# Altium footprint library QFN.PcbLib: 1 footprints
Each footprint in its own frame and in the unit in brackets; x right, y up, seen from the top. Pads: shape width x height; smd on the part's side, far side on the other; paste and mask are expansions set on the pad; w line width, h text height; cw(c..) or ccw(c..) is an arc to the next point about the centre after c.
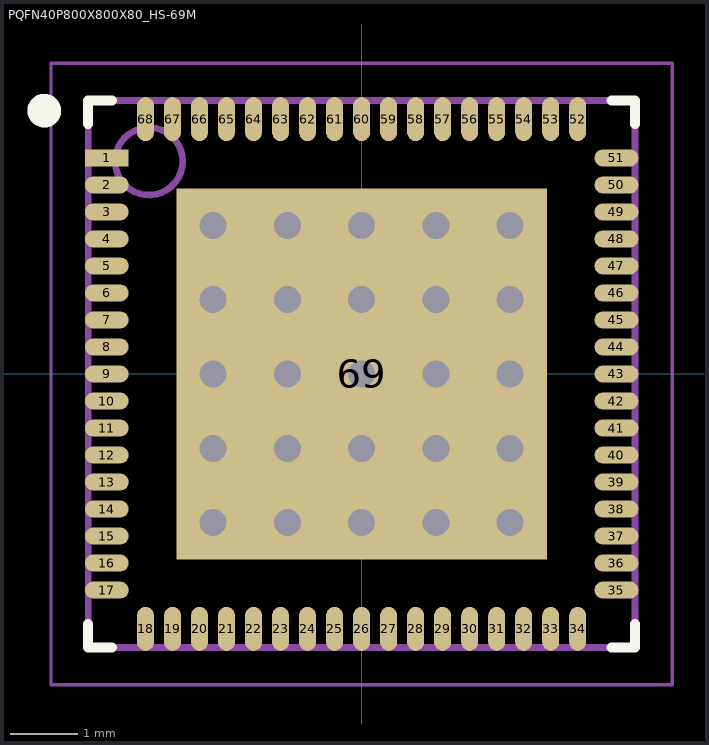
[diagram p0: the footprint, top view; thin cyan lines are the x and y axes]

## PQFN40P800X800X80_HS-69M [mm] "PQFN, 68-Leads, Body 8.00x8.00mm, Pitch 0.40mm, Thermal Pad 5.49x5.49mm, IPC Low Density"
height 0.8
pads (69):
  rect 0.65x0.25 smd: 1(-3.775,3.2)
  oval 0.65x0.25 smd: 2(-3.775,2.8) 3(-3.775,2.4) 4(-3.775,2) 5(-3.775,1.6) 6(-3.775,1.2) 7(-3.775,0.8) 8(-3.775,0.4) 9(-3.775,0) 10(-3.775,-0.4) 11(-3.775,-0.8) 12(-3.775,-1.2) 13(-3.775,-1.6) 14(-3.775,-2) 15(-3.775,-2.4) 16(-3.775,-2.8) 17(-3.775,-3.2) 35(3.775,-3.2) 36(3.775,-2.8) 37(3.775,-2.4) 38(3.775,-2) 39(3.775,-1.6) 40(3.775,-1.2) 41(3.775,-0.8) 42(3.775,-0.4) 43(3.775,0) 44(3.775,0.4) 45(3.775,0.8) 46(3.775,1.2) 47(3.775,1.6) 48(3.775,2) 49(3.775,2.4) 50(3.775,2.8) 51(3.775,3.2)
  oval 0.25x0.65 smd: 18(-3.2,-3.775) 19(-2.8,-3.775) 20(-2.4,-3.775) 21(-2,-3.775) 22(-1.6,-3.775) 23(-1.2,-3.775) 24(-0.8,-3.775) 25(-0.4,-3.775) 26(0,-3.775) 27(0.4,-3.775) 28(0.8,-3.775) 29(1.2,-3.775) 30(1.6,-3.775) 31(2,-3.775) 32(2.4,-3.775) 33(2.8,-3.775) 34(3.2,-3.775) 52(3.2,3.775) 53(2.8,3.775) 54(2.4,3.775) 55(2,3.775) 56(1.6,3.775) 57(1.2,3.775) 58(0.8,3.775) 59(0.4,3.775) 60(0,3.775) 61(-0.4,3.775) 62(-0.8,3.775) 63(-1.2,3.775) 64(-1.6,3.775) 65(-2,3.775) 66(-2.4,3.775) 67(-2.8,3.775) 68(-3.2,3.775)
  rect 5.49x5.49 smd: 69(0,0)
via 2.2,-2.2 diameter 0.8 hole 0.4
via 1.1,-2.2 diameter 0.8 hole 0.4
via 0,-2.2 diameter 0.8 hole 0.4
via -1.1,-2.2 diameter 0.8 hole 0.4
via -2.2,-2.2 diameter 0.8 hole 0.4
via 2.2,-1.1 diameter 0.8 hole 0.4
via 1.1,-1.1 diameter 0.8 hole 0.4
via 0,-1.1 diameter 0.8 hole 0.4
via -1.1,-1.1 diameter 0.8 hole 0.4
via -2.2,-1.1 diameter 0.8 hole 0.4
via 2.2,0 diameter 0.8 hole 0.4
via 1.1,0 diameter 0.8 hole 0.4
via 0,0 diameter 0.8 hole 0.4
via -1.1,0 diameter 0.8 hole 0.4
via -2.2,0 diameter 0.8 hole 0.4
via 2.2,1.1 diameter 0.8 hole 0.4
via 1.1,1.1 diameter 0.8 hole 0.4
via 0,1.1 diameter 0.8 hole 0.4
via -1.1,1.1 diameter 0.8 hole 0.4
via -2.2,1.1 diameter 0.8 hole 0.4
via 2.2,2.2 diameter 0.8 hole 0.4
via 1.1,2.2 diameter 0.8 hole 0.4
via 0,2.2 diameter 0.8 hole 0.4
via -1.1,2.2 diameter 0.8 hole 0.4
via -2.2,2.2 diameter 0.8 hole 0.4
Top Overlay:
  circle w0.25: c-4.7,3.9 r0.125
  lines w0.15: -4.05,-3.7 -4.05,-4.05 -3.7,-4.05 ; -4.05,3.7 -4.05,4.05 -3.7,4.05 ; 3.7,-4.05 4.05,-4.05 4.05,-3.7 ; 3.7,4.05 4.05,4.05 4.05,3.7
Mechanical 13:
  circle w0.1: c-3.15,3.15 r0.5
  lines w0.1: -4.05,-4.05 4.05,-4.05 4.05,4.05 -4.05,4.05 -4.05,-4.05
Mechanical 15:
  lines w0.05: -4.6,-4.6 4.6,-4.6 4.6,4.6 -4.6,4.6 -4.6,-4.6
  lines w0.1: -0.5,0 0.5,0 ; 0,-0.5 0,0.5
3D body: height 0.8, standoff 0.02, extent -4.05,-4.05 4.05,4.05